# Altium integrated library SmartToy_MainBoard_REV02.IntLib: 24 symbols
Pins are listed as number, name and electrical type; pins without a type are passive.

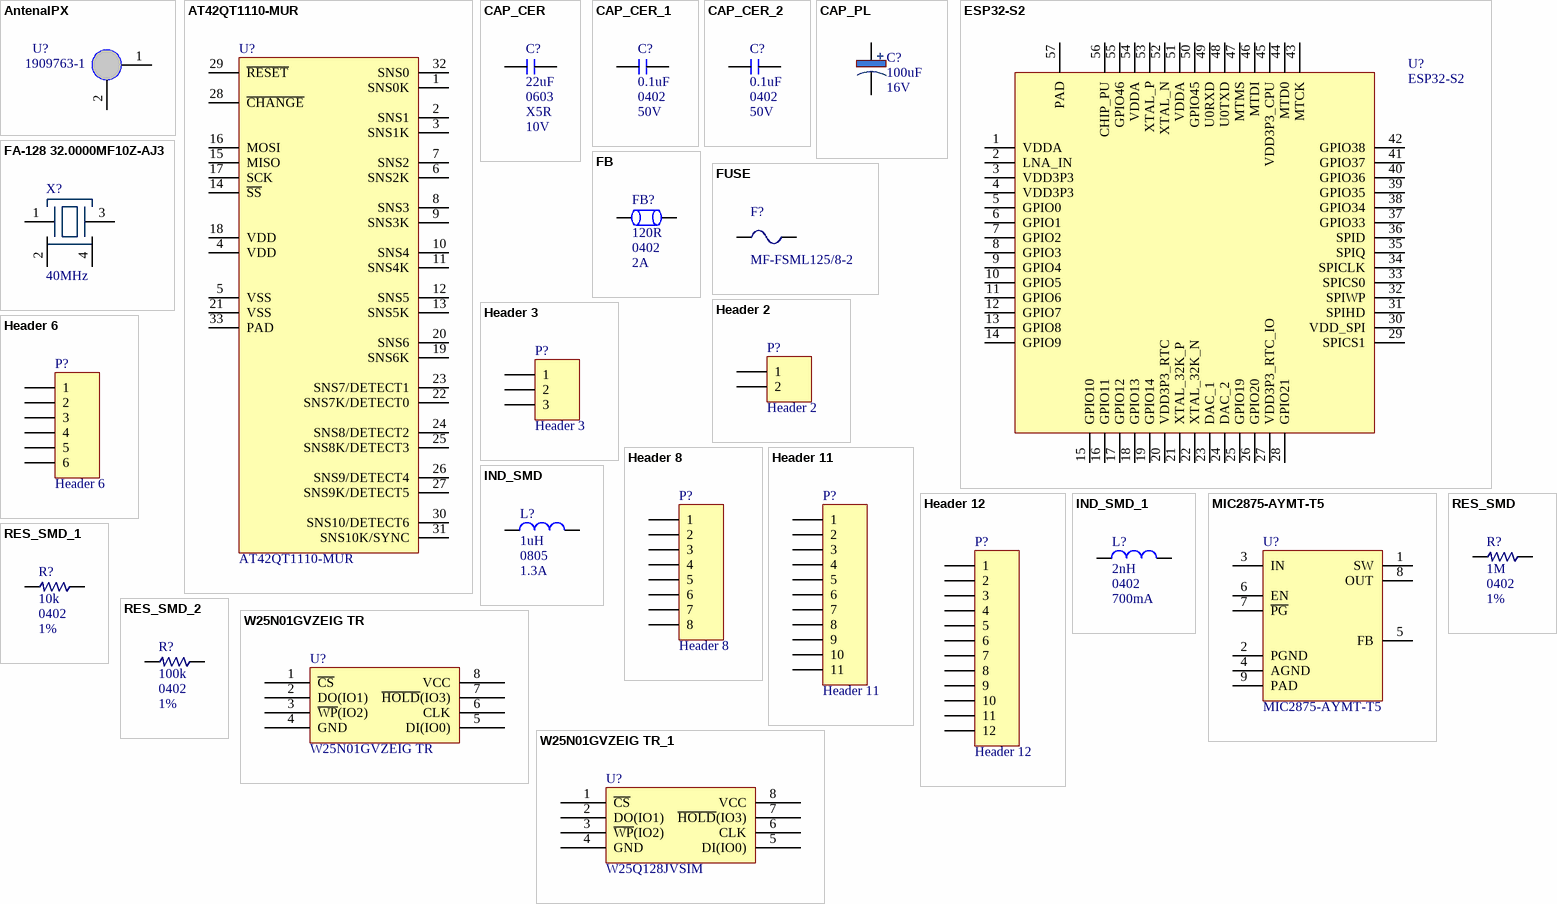
[diagram p0: symbols AntenaIPX to W25N01GVZEIG TR_1]

## AntenaIPX
designator U?, comment 1909763-1
CONN UMCC JACK STR 50OHM SMD; Manufacturer: TE Connectivity AMP; Body Material: Polymer,Liquid Crystal Polymer; Body Plating: Gold; Dielectric Material: Polymer; Impedance: 50R; Max Frequency: 6GHz; Gender: Female; Connector System: Cable-to-Board; Number of Positions: 1; Sealable: No (Without); Supplier 1: Digi-Key; Supplier Part Number 1: A118077CT-ND; Manufacturer Part Number: 1909763-1; Stock 1: 175154; Pricing 1: 1 = 0.46000, 10 = 0.42900, 25 = 0.38600, 50 = 0.34300, 100 = 0.32860, 250 = 0.30008, 500 = 0.28578, 1000 = 0.23577, 2500 = 0.21434 (USD); RoHS: Yes; Mount: Panel; Case/Package: SMD/SMT; Contact Plating: Gold; Contact Material: Copper Alloy; Housing Color: Beige; Insulation Material: Thermoplastic; Min Operating Temperature: -40°C; Max Operating Temperature: 194°C; Packaging: Tape and Reel; Package Quantity: 1; Fastening Type: Push,Pull; Termination: SMD/SMT; Connector Type: Jack; Orientation: Straight; Frequency: 6GHz; Length: 3mm; Radiation Hardening: No; ELV: Compliant; Lead Free: Lead Free; ComponentLink1URL: https://datasheet.ciiva.com/16312/eng-cd-1909763-b-16312469.pdf?src-supplier=Future+Electronics; ComponentLink1Description: https://datasheet.ciiva.com/16312/eng-cd-1909763-b-16312469.pdf?src-supplier=Future+Electronics; ComponentLink2URL: https://datasheet.ciiva.com/16469/eng-cd-1909763-b-16469221.pdf?src-supplier=Avnet+Asia; ComponentLink2Description: https://datasheet.ciiva.com/16469/eng-cd-1909763-b-16469221.pdf?src-supplier=Avnet+Asia; ComponentLink3URL: https://datasheet.ciiva.com/9423/eng-cd-1909763-b-9423785.pdf?src-supplier=Avnet; ComponentLink3Description: https://datasheet.ciiva.com/9423/eng-cd-1909763-b-9423785.pdf?src-supplier=Avnet; ComponentLink4URL: https://datasheet.ciiva.com/29191/eng-cd-1909763-b1-basefilename-29191146.pdf?src-supplier=Digi-Key; ComponentLink4Description: https://datasheet.ciiva.com/29191/eng-cd-1909763-b1-basefilename-29191146.pdf?src-supplier=Digi-Key; ComponentLink5URL: https://datasheet.ciiva.com/29191/eng-cd-1909763-b1-basefilename-29191148.pdf?src-supplier=Digi-Key; ComponentLink5Description: https://datasheet.ciiva.com/29191/eng-cd-1909763-b1-basefilename-29191148.pdf?src-supplier=Digi-Key
footprint IPEX_ANT
pins: 1 SIG, 2 GND

## AT42QT1110-MUR
designator U?
Capacitive Touch Screen 11 Key 32-Pin VQFN EP T/R; Manufacturer 1: Microchip; Supplier 1: Digi-Key; Manufacturer Part Number 1: AT42QT1110-MUR; RoHS: No; Stock 1: 4052; Pricing 1: 1=1.16000, 25=1.06000, 100=0.96200 (USD); ComponentLink1URL: http://www.microchip.com/mymicrochip/filehandler.aspx?ddocname=en590256&src-supplier=Digi-Key; ComponentLink1Description: http://www.microchip.com/mymicrochip/filehandler.aspx?ddocname=en590256&src-supplier=Digi-Key; Supplier Part Number 1: AT42QT1110-MURCT-ND
footprint QFN50P500X500X100_HS-33N (QFN, 32-Leads, Body 5.00x5.00mm, Pitch 0.50mm, Thermal Pad 3.50x3.50mm, IPC Medium Density)
pins: 1 SNS0K, 2 SNS1, 3 SNS1K, 4 VDD, 5 VSS, 6 SNS2K, 7 SNS2, 8 SNS3, 9 SNS3K, 10 SNS4, 11 SNS4K, 12 SNS5, 13 SNS5K, 14 ~{SS}, 15 MISO, 16 MOSI, 17 SCK, 18 VDD, 19 SNS6K, 20 SNS6, 21 VSS, 22 SNS7K/DETECT0, 23 SNS7/DETECT1, 24 SNS8/DETECT2, 25 SNS8K/DETECT3, 26 SNS9/DETECT4, 27 SNS9K/DETECT5, 28 ~{CHANGE}, 29 ~{RESET}, 30 SNS10/DETECT6, 31 SNS10K/SYNC, 32 SNS0, 33 PAD

## CAP_CER
designator C?, comment 22uF  Case Code (Imperial): 0603  Dielectric: X5R  Voltage Rating: 10V
CAP CER 22UF 10V X5R 0603; Manufacturer: Samsung; Manufacturer Part Number: CL10A226MP8NUNE; Tolerance: 20%; Supplier 1: Digi-Key; Supplier Part Number 1: 1276-1274-1-ND; Stock 1: 62306; Pricing 1: 1 = 0.20000, 10 = 0.14300, 50 = 0.08100, 100 = 0.06720, 500 = 0.04710, 1000 = 0.03900 (USD); RoHS: Yes; Mount: Surface Mount; Case/Package: 0603; Case Code (Metric): 1608; Contact Plating: Tin; Min Operating Temperature: -55°C; Max Operating Temperature: 85°C; Packaging: Tape and Reel; Capacitance: 22uF; Length: 1.6mm; Width: 0.031inch; Height: 0.8mm; Thickness: 0.035inch; Depth: 0.8mm; Radiation Hardening: No; Lead Free: Lead Free; ComponentLink1URL: https://datasheet.ciiva.com/26838/getdatasheetpartid-746477-26838370.pdf?src-supplier=Verical; ComponentLink1Description: https://datasheet.ciiva.com/26838/getdatasheetpartid-746477-26838370.pdf?src-supplier=Verical; ComponentLink2URL: https://datasheet.ciiva.com/25711/cl10a226mp8nune-25711532.pdf?src-supplier=Digi-Key; ComponentLink2Description: https://datasheet.ciiva.com/25711/cl10a226mp8nune-25711532.pdf?src-supplier=Digi-Key
footprint C0201M (Chip Capacitor 0201)
footprint C0402M (Capacitor 0402)
footprint C0603M (Chip Capacitor 0603)
footprint C0805M (Chip Capacitor 0805)
footprint C1206M (Chip Capacitor, 2-Leads, Body 3.20x1.60mm, IPC Medium Density)
footprint C1812M (Chip Capacitor, 2-Leads, Body 4.60x3.20mm, IPC Medium Density)
footprint C1210M (Chip Capacitor, 2-Leads, Body 3.20x2.50mm, IPC Medium Density)
footprint C5750M (Chip Capacitor, 2-Leads, Body 5.70x5.00mm, IPC Medium Density)
pins: 1, 2

## CAP_CER_1
designator C?, comment 0.1uF  Case Code (Imperial): 0402  Voltage: 50V
CAP CER 0.1UF 50V X7R 0402; Manufacturer: Murata; Manufacturer Part Number: GRM155R71H104KE14D; Material: Ceramic; Tolerance: 10%; Capacitance: 100nF; Dissipation Factor: 0.025%; ComponentLink1URL: https://datasheet.ciiva.com/25741/cl10b104kb8nnnl-25741341.pdf?src-supplier=Digi-Key; ComponentLink1Description: https://datasheet.ciiva.com/25741/cl10b104kb8nnnl-25741341.pdf?src-supplier=Digi-Key; ComponentLink2URL: https://datasheet.ciiva.com/26838/getdatasheetpartid-357523-26838415.pdf?src-supplier=Verical; ComponentLink2Description: https://datasheet.ciiva.com/26838/getdatasheetpartid-357523-26838415.pdf?src-supplier=Verical; Supplier 1: Digi-Key; Supplier Part Number 1: 490-10700-1-ND; Stock 1: 2282266; Pricing 1: 1 = 0.10000, 10 = 0.04600, 100 = 0.02050, 500 = 0.01464, 1000 = 0.01150, 2500 = 0.01045, 5000 = 0.00961 (USD); RoHS: Yes; Mount: Surface Mount; Case/Package: 0402; Weight: 0.000212oz; Case Code (Metric): 1005; Dielectric Material: Ceramic; Min Operating Temperature: -55°C; Max Operating Temperature: 125°C; Packaging: Tape and Reel; Dielectric: X7R; Voltage Rating: 50V; Termination: SMD/SMT; Composition: Ceramic; Voltage Rating (DC): 50V; Package Quantity: 10000; Length: 1mm; Height: 0.5mm; Width: 0.5mm; Thickness: 0.022inch; Depth: 0.5mm; REACH SVHC: No SVHC; Lead Free: Lead Free; ComponentLink3URL: http://www.farnell.com/datasheets/2079156.pdf?src-supplier=Farnell; ComponentLink3Description: http://www.farnell.com/datasheets/2079156.pdf?src-supplier=Farnell; ComponentLink4URL: http://www.mouser.com/ds/2/281/c02e-2905.pdf?src-supplier=Mouser; ComponentLink4Description: http://www.mouser.com/ds/2/281/c02e-2905.pdf?src-supplier=Mouser; ComponentLink5URL: http://components.arrow.com/part/dataview/0323_07030614?src-supplier=Arrow+Europe; ComponentLink5Description: http://components.arrow.com/part/dataview/0323_07030614?src-supplier=Arrow+Europe; ComponentLink6URL: https://search.murata.co.jp/Ceramy/image/img/A01X/G101/ENG/GRM155R71H104KE14-01.pdf?src-supplier=Digi-Key; ComponentLink6Description: https://search.murata.co.jp/Ceramy/image/img/A01X/G101/ENG/GRM155R71H104KE14-01.pdf?src-supplier=Digi-Key; ComponentLink7URL: http://psearch.en.murata.com/capacitor/product/GRM155R71H104KE14%23.pdf?src-supplier=Avnet; ComponentLink7Description: http://psearch.en.murata.com/capacitor/product/GRM155R71H104KE14%23.pdf?src-supplier=Avnet; ComponentLink8URL: http://www.farnell.com/datasheets/2079156.pdf?src-supplier=Element14; ComponentLink8Description: http://www.farnell.com/datasheets/2079156.pdf?src-supplier=Element14; ComponentLink9URL: http://www.farnell.com/datasheets/2079156.pdf?src-supplier=Newark; ComponentLink9Description: http://www.farnell.com/datasheets/2079156.pdf?src-supplier=Newark
footprint C0201M (Chip Capacitor 0201)
footprint C0402M (Capacitor 0402)
footprint C0603M (Chip Capacitor 0603)
footprint C0805M (Chip Capacitor 0805)
footprint C1206M (Chip Capacitor, 2-Leads, Body 3.20x1.60mm, IPC Medium Density)
footprint C1812M (Chip Capacitor, 2-Leads, Body 4.60x3.20mm, IPC Medium Density)
pins: 1, 2

## CAP_CER_2
designator C?, comment 0.1uF  Case/Package: 0402  Voltage: 50V
CAP CER 0.1UF 50V X7R 0402; Manufacturer: Murata; Manufacturer Part Number: GRM155R71H104KE14D; Material: Ceramic; Tolerance: 10%; Capacitance: 100nF; Dissipation Factor: 0.025%; ComponentLink1URL: https://datasheet.ciiva.com/25741/cl10b104kb8nnnl-25741341.pdf?src-supplier=Digi-Key; ComponentLink1Description: https://datasheet.ciiva.com/25741/cl10b104kb8nnnl-25741341.pdf?src-supplier=Digi-Key; ComponentLink2URL: https://datasheet.ciiva.com/26838/getdatasheetpartid-357523-26838415.pdf?src-supplier=Verical; ComponentLink2Description: https://datasheet.ciiva.com/26838/getdatasheetpartid-357523-26838415.pdf?src-supplier=Verical; Supplier 1: Digi-Key; Supplier Part Number 1: 490-10700-1-ND; Stock 1: 2282266; Pricing 1: 1 = 0.10000, 10 = 0.04600, 100 = 0.02050, 500 = 0.01464, 1000 = 0.01150, 2500 = 0.01045, 5000 = 0.00961 (USD); RoHS: Yes; Mount: Surface Mount; Weight: 0.000212oz; Case Code (Metric): 1005; Case Code (Imperial): 0402; Dielectric Material: Ceramic; Min Operating Temperature: -55°C; Max Operating Temperature: 125°C; Packaging: Tape and Reel; Dielectric: X7R; Voltage Rating: 50V; Termination: SMD/SMT; Composition: Ceramic; Voltage Rating (DC): 50V; Package Quantity: 10000; Length: 1mm; Height: 0.5mm; Width: 0.5mm; Thickness: 0.022inch; Depth: 0.5mm; REACH SVHC: No SVHC; Lead Free: Lead Free; ComponentLink3URL: http://www.farnell.com/datasheets/2079156.pdf?src-supplier=Farnell; ComponentLink3Description: http://www.farnell.com/datasheets/2079156.pdf?src-supplier=Farnell; ComponentLink4URL: http://www.mouser.com/ds/2/281/c02e-2905.pdf?src-supplier=Mouser; ComponentLink4Description: http://www.mouser.com/ds/2/281/c02e-2905.pdf?src-supplier=Mouser; ComponentLink5URL: http://components.arrow.com/part/dataview/0323_07030614?src-supplier=Arrow+Europe; ComponentLink5Description: http://components.arrow.com/part/dataview/0323_07030614?src-supplier=Arrow+Europe; ComponentLink6URL: https://search.murata.co.jp/Ceramy/image/img/A01X/G101/ENG/GRM155R71H104KE14-01.pdf?src-supplier=Digi-Key; ComponentLink6Description: https://search.murata.co.jp/Ceramy/image/img/A01X/G101/ENG/GRM155R71H104KE14-01.pdf?src-supplier=Digi-Key; ComponentLink7URL: http://psearch.en.murata.com/capacitor/product/GRM155R71H104KE14%23.pdf?src-supplier=Avnet; ComponentLink7Description: http://psearch.en.murata.com/capacitor/product/GRM155R71H104KE14%23.pdf?src-supplier=Avnet; ComponentLink8URL: http://www.farnell.com/datasheets/2079156.pdf?src-supplier=Element14; ComponentLink8Description: http://www.farnell.com/datasheets/2079156.pdf?src-supplier=Element14; ComponentLink9URL: http://www.farnell.com/datasheets/2079156.pdf?src-supplier=Newark; ComponentLink9Description: http://www.farnell.com/datasheets/2079156.pdf?src-supplier=Newark
footprint C0201M (Chip Capacitor 0201)
footprint C0402M (Capacitor 0402)
footprint C0603M (Chip Capacitor 0603)
footprint C0805M (Chip Capacitor 0805)
footprint C1206M (Chip Capacitor, 2-Leads, Body 3.20x1.60mm, IPC Medium Density)
footprint C1812M (Chip Capacitor, 2-Leads, Body 4.60x3.20mm, IPC Medium Density)
footprint C0402MA (Capacitor 0402)
pins: 1, 2

## CAP_PL
designator C?, comment 100uF  Voltage Rating: 16V
CAP ALUM 100UF 20% 16V RADIAL; Manufacturer 1: Nichicon; Manufacturer Part Number 1: UPS1C101MED; Ripple Current: 250mA; Impedance: 500mR; Life (Hours): 2000Hour; Leakage Current: 4uA; Lead Diameter: 0.5mm; Supplier 1: Digi-Key; Supplier Part Number 1: 493-15821-ND; RoHS: Yes; Category: Aluminum Electrolytic Capacitors; Stock 1: 11875; Pricing 1: 1=0.40000, 10=0.27300, 50=0.18220, 100=0.15480, 500=0.10930, 1000=0.09563, 2500=0.09108, 5000=0.08425 (USD); Mount: Through Hole; Case/Package: Radial; Min Operating Temperature: -55°C; Max Operating Temperature: 105°C; Tolerance: 20%; Capacitance: 100uF; Packaging: Bulk; Termination: Radial; Package Quantity: 200; Series: PS; Voltage: 16V; Construction: RADIAL; Diameter: 6.3mm; Height: 11mm; Lead Pitch: 2.5mm; Height - Seated (Max): 0.492inch; Radiation Hardening: No; RoHS Compliant: Yes; ComponentLink1URL: https://datasheet.ciiva.com/30527/getdatasheetpartid-388103-30527200.pdf?src-supplier=Verical; ComponentLink1Description: https://datasheet.ciiva.com/30527/getdatasheetpartid-388103-30527200.pdf?src-supplier=Verical; ComponentLink2URL: https://datasheet.ciiva.com/11777/0900766b8064973a-11777900.pdf?src-supplier=RSComponents; ComponentLink2Description: https://datasheet.ciiva.com/11777/0900766b8064973a-11777900.pdf?src-supplier=RSComponents; ComponentLink3URL: https://datasheet.ciiva.com/17525/e-ps-17525750.pdf?src-supplier=Avnet+Europe; ComponentLink3Description: https://datasheet.ciiva.com/17525/e-ps-17525750.pdf?src-supplier=Avnet+Europe; ComponentLink4URL: https://datasheet.ciiva.com/109/e-ps-109463.pdf?src-supplier=Digi-Key; ComponentLink4Description: https://datasheet.ciiva.com/109/e-ps-109463.pdf?src-supplier=Digi-Key; ComponentLink5URL: https://datasheet.ciiva.com/11686/e-ps-11686127.pdf?src-supplier=Avnet; ComponentLink5Description: https://datasheet.ciiva.com/11686/e-ps-11686127.pdf?src-supplier=Avnet
footprint CP_18X33.5_P7.5MM (ExPart: UCS2W680MHD)
footprint CP_5X10_P5.0MM (Expart: UHE1V221MPD6)
footprint CP_12.5X27_P5.0MM (Expart: UPJ1E102MHD1TO)
footprint CP_6.3X12.5_P2.5MM (Expart: UPJ1C680MED1TD)
footprint CP_8X13_P3.5MM (Footprint not found)
footprint CP_10X16_P5.0MM (Expart: UHD1E471MPD6)
footprint CP_TANT_7343 (Molded Capacitor, 2-Leads, Body 7.30x4.30mm, IPC Medium Density)
footprint CP_TANT_3528 (Molded Capacitor, 2-Leads, Body 3.50x2.80mm, IPC Medium Density)
footprint CP_5X12.5_P2.5MM (Expart: UPS1H010MDD1TD)
pins: 1, 2

## ESP32-S2
designator U?
RF System on a Chip - SoC SMD Wi-Fi IC, ESP32-S2, singal-core MCU, QFN 56-pin, 7*7 mm; Manufacturer 1: Espressif Systems; Manufacturer Part Number 1: ESP32-S2
footprint QFN40P700X700X90_HS-57N (QFN, 56-Leads, Body 7.00x7.00mm, Pitch 0.40mm, Thermal Pad 4.00x4.00mm, IPC Medium Density)
pins: 1 VDDA, 2 LNA_IN, 3 VDD3P3, 4 VDD3P3, 5 GPIO0, 6 GPIO1, 7 GPIO2, 8 GPIO3, 9 GPIO4, 10 GPIO5, 11 GPIO6, 12 GPIO7, 13 GPIO8, 14 GPIO9, 15 GPIO10, 16 GPIO11, 17 GPIO12, 18 GPIO13, 19 GPIO14, 20 VDD3P3_RTC, 21 XTAL_32K_P, 22 XTAL_32K_N, 23 DAC_1, 24 DAC_2, 25 GPIO19, 26 GPIO20, 27 VDD3P3_RTC_IO, 28 GPIO21, 29 SPICS1, 30 VDD_SPI, 31 SPIHD, 32 SPIWP, 33 SPICS0, 34 SPICLK, 35 SPIQ, 36 SPID, 37 GPIO33, 38 GPIO34, 39 GPIO35, 40 GPIO36, 41 GPIO37, 42 GPIO38, 43 MTCK, 44 MTD0, 45 VDD3P3_CPU, 46 MTDI, 47 MTMS, 48 U0TXD, 49 U0RXD, 50 GPIO45, 51 VDDA, 52 XTAL_N, 53 XTAL_P, 54 VDDA, 55 GPIO46, 56 CHIP_PU, 57 PAD

## FA-128 32.0000MF10Z-AJ3
designator X?, comment 40MHz
CRYSTAL 40.0000MHZ 8PF SMD; Manufacturer 1: Abracon; Manufacturer Part Number 1: ABM11W-40.0000MHZ-8-B1U-T3; Drain to Source Voltage (Vdss): 60V; Continuous Drain Current (ID): 22A; Rds On Max: 4mR; Input Capacitance: 2.2nF; Max Power Dissipation: 79W; Frequency Stability: 10ppm; ESR (Equivalent Series Resistance): 60R; Supplier 1: Digi-Key; Supplier Part Number 1: 535-13918-1-ND; RoHS: Yes; Stock 1: 770; Pricing 1: 1=0.78000, 10=0.69000, 50=0.64500, 100=0.57000, 500=0.54000 (USD); Mount: Surface Mount; Case/Package: DFN; Min Operating Temperature: -55°C; Max Operating Temperature: 175°C; Packaging: Cut Tape; Frequency: 40MHz; Frequency Tolerance: 10ppm; Load Capacitance: 8pF; ComponentLink1URL: https://abracon.com/Resonators/ABM11W.pdf?src-supplier=Digi-Key; ComponentLink1Description: https://abracon.com/Resonators/ABM11W.pdf?src-supplier=Digi-Key
footprint FA-128
pins: 1, 2, 3, 4

## FB
designator FB?, comment 120R  Case/Package: 0402  Current Rating: 2A
FERRITE BEAD 120 OHM 0402 1LN; Manufacturer: Murata; Manufacturer Part Number: BLM15PX121SN1D; Material: Steel; Tolerance: 25%; Number of Lines: 1; DC Resistance (DCR): 55mR; Test Frequency: 100MHz; Supplier 1: Digi-Key; Supplier Part Number 1: 490-9656-1-ND; RoHS: Yes; Category: Inductors; Stock 1: 73734; Pricing 1: 1=0.12000, 10=0.09500, 25=0.07400, 50=0.06140, 100=0.05280, 250=0.04228, 500=0.03806, 1000=0.03171, 5000=0.02960 (USD); Number of Pins: 2; Case Code (Metric): 1005; Case Code (Imperial): 0402; Weight: 2.3E-05oz; Min Operating Temperature: -55°C; Max Operating Temperature: 125°C; Package Quantity: 10000; Impedance: 120R; Packaging: Tape and Reel; Max Current Rating: 2A; Termination: SMD/SMT; Max DC Current: 2A; Number of Circuits: 1; Series: EMIFIL®, BLM15P; Length: 1mm; Width: 0.5mm; Height: 0.5mm; REACH SVHC: No SVHC; Lead Free: Lead Free; RoHS Compliant: Yes; ComponentLink1URL: https://datasheet.ciiva.com/41449/001172210-da-01-en-drossel-0402-120r-1-0x0-5mm-10000st-41449498.pdf?src-supplier=Conrad; ComponentLink1Description: https://datasheet.ciiva.com/41449/001172210-da-01-en-drossel-0402-120r-1-0x0-5mm-10000st-41449498.pdf?src-supplier=Conrad; ComponentLink2URL: https://datasheet.ciiva.com/29364/l0110e-29364069.pdf?src-supplier=Digi-Key; ComponentLink2Description: https://datasheet.ciiva.com/29364/l0110e-29364069.pdf?src-supplier=Digi-Key; ComponentLink3URL: https://datasheet.ciiva.com/41860/l0110e-41860699.pdf?src-supplier=Digi-Key; ComponentLink3Description: https://datasheet.ciiva.com/41860/l0110e-41860699.pdf?src-supplier=Digi-Key
footprint R0603M (Chip Resistor 0603)
footprint R0805M (Chip Resistor 0805)
footprint R0402M (Chip Resistor 0402)
pins: 1, 2

## FUSE
designator F?, comment MF-FSML125/8-2
PTC RESET FUSE 8V 1.25A 0603; Manufacturer 1: Bourns; Associated Product: 01000056Z; Supplier 1: Digi-Key; Supplier Part Number 1: MF-FSML125/8-2TR-ND; Manufacturer Part Number 1: MF-FSML125/8-2; RoHS: No; Stock 1: 6000; Pricing 1: 6000=0.53200 (USD)
footprint R0603M (Chip Resistor 0603)
pins: 1, 2

## Header 2
designator P?  (no BOM)
Header, 2-Pin; LatestRevisionDate: 17-Jul-2002; LatestRevisionNote: Re-released for DXP Platform.; Publisher: Altium Limited
footprint HDR1X2 (Connector; Header; 2 Position)
signal-integrity model Connector
pins: 1, 2

## Header 3
designator P?  (no BOM)
Header, 3-Pin; LatestRevisionDate: 17-Jul-2002; LatestRevisionNote: Re-released for DXP Platform.; Publisher: Altium Limited
footprint HDR1X3 (Connector; Header; 3 Position)
signal-integrity model Connector
pins: 1, 2, 3

## Header 6
designator P?  (no BOM)
Header, 6-Pin; LatestRevisionDate: 17-Jul-2002; LatestRevisionNote: Re-released for DXP Platform.; Publisher: Altium Limited
footprint HDR1X6 (Connector; Header; 6 Position)
signal-integrity model Connector
pins: 1, 2, 3, 4, 5, 6

## Header 8
designator P?  (no BOM)
Header, 8-Pin; LatestRevisionDate: 17-Jul-2002; LatestRevisionNote: Re-released for DXP Platform.; Publisher: Altium Limited
footprint HDR1X8 (Connector; Header; 8 Position)
signal-integrity model Connector
pins: 1, 2, 3, 4, 5, 6, 7, 8

## Header 11
designator P?  (no BOM)
Header, 11-Pin; LatestRevisionDate: 17-Jul-2002; LatestRevisionNote: Re-released for DXP Platform.; Publisher: Altium Limited
footprint TOUCH_CONTACT_MAINBOARD
signal-integrity model Connector
pins: 1, 2, 3, 4, 5, 6, 7, 8, 9, 10, 11

## Header 12
designator P?  (no BOM)
Header, 12-Pin; LatestRevisionDate: 17-Jul-2002; LatestRevisionNote: Re-released for DXP Platform.; Publisher: Altium Limited
footprint HDR1X12 (Connector; Header; 12 Position)
signal-integrity model Connector
pins: 1, 2, 3, 4, 5, 6, 7, 8, 9, 10, 11, 12

## IND_SMD
designator L?, comment 1uH  Case Code (Imperial): 0805  Current Rating: 1.3A
FIXED IND 1UH 1.3A 82.5 MOHM SMD; Manufacturer 1: Murata; Manufacturer Part Number 1: LQM21PN1R0NGRD; Core Material: Ferrite; Tolerance: 30%; Shielding: Shielded; Self Resonant Frequency: 50MHz; DC Resistance (DCR): 82.5mR; Test Frequency: 1MHz; Supplier 1: Digi-Key; Supplier Part Number 1: 490-7780-1-ND; RoHS: Yes; Category: Fixed Inductors; Stock 1: 20158; Pricing 1: 1=0.24000, 10=0.21400, 25=0.18760, 50=0.16060, 100=0.14730, 250=0.13388, 500=0.12584, 1000=0.09639 (USD); Mount: Surface Mount; Case/Package: 0805; Case Code (Metric): 2012; Weight: 0.000194oz; Min Operating Temperature: -55°C; Max Operating Temperature: 125°C; Packaging: Tape and Reel; Package Quantity: 4000; Inductance: 1uH; Max DC Current: 1.3A; Termination: SMD/SMT; DC Current: 1.3A; Inductance Tolerance: 30%; Series: LQM21PN_GR; Length: 2mm; Width: 0.049inch; Height: 0.9mm; Height - Seated (Max): 0.039inch; Depth: 1.4mm; Military Standard: Not; REACH SVHC: No SVHC; RoHS Compliant: Yes; ComponentLink1URL: https://datasheet.ciiva.com/4965/l0075s0104lqm21p-gr-125292-4965537.pdf?src-supplier=Mouser; ComponentLink1Description: https://datasheet.ciiva.com/4965/l0075s0104lqm21p-gr-125292-4965537.pdf?src-supplier=Mouser; ComponentLink2URL: https://datasheet.ciiva.com/30490/0900766b812561d6-30490175.pdf?src-supplier=RSComponents; ComponentLink2Description: https://datasheet.ciiva.com/30490/0900766b812561d6-30490175.pdf?src-supplier=RSComponents
footprint IND_0805 (Chip Inductor, 2-Leads, Body 2.00x1.25mm, IPC Medium Density)
footprint IND_0402 (Chip Inductor, 2-Leads, Body 1.00x0.50mm, IPC Medium Density)
footprint IND_0603 (Chip Inductor, 2-Leads, Body 1.60x0.80mm, IPC Medium Density)
footprint IND_0805 (Chip Inductor, 2-Leads, Body 2.00x1.25mm, IPC Medium Density)
footprint IND_1210
footprint IND_2520
footprint IND_6045
footprint IND_5040
pins: 1, 2

## IND_SMD_1
designator L?, comment 2nH  Case Code (Imperial): 0402  Current Rating: 700mA
FIXED IND 2NH 700MA 120 MOHM SMD; Manufacturer 1: Taiyo Yuden; Manufacturer Part Number 1: HK10052N0S-T; Core Material: Ferrite,Ceramic; Self Resonant Frequency: 6GHz; Shielding: Unshielded; DC Resistance (DCR): 120mR; Q Factor: 8; Test Frequency: 100MHz; Max DC Current: 300mA; Supplier 1: Digi-Key; Supplier Part Number 1: 587-1502-1-ND; RoHS: Yes; Category: Fixed Inductors; Stock 1: 13842; Pricing 1: 1=0.10000, 10=0.02600, 25=0.02360, 50=0.02100, 100=0.01780, 250=0.01576, 500=0.01444, 1000=0.01234, 2500=0.01102 (USD); Mount: Surface Mount; Case/Package: 0402; Number of Pins: 2; Case Code (Metric): 1005; Weight: 2.3E-05oz; Min Operating Temperature: -55°C; Max Operating Temperature: 125°C; Packaging: Tape and Reel; Inductance: 2nH; Package Quantity: 10000; Termination: SMD/SMT; Series: HK; Length: 0.039inch; Width: 0.5mm; Height: 0.5mm; Height - Seated (Max): 0.022inch; Depth: 0.55mm; Radiation Hardening: No; Lead Free: Exempt; Halogen Free: Halogen Free; REACH SVHC: No SVHC; RoHS Compliant: Yes; ComponentLink1URL: https://datasheet.ciiva.com/7153/hk10052n0s-t-ss-7153840.pdf?src-supplier=Newark; ComponentLink1Description: https://datasheet.ciiva.com/7153/hk10052n0s-t-ss-7153840.pdf?src-supplier=Newark; ComponentLink2URL: https://datasheet.ciiva.com/15986/1438hk10052n0s-t-15986357.pdf?src-supplier=Onlinecomponents.com; ComponentLink2Description: https://datasheet.ciiva.com/15986/1438hk10052n0s-t-15986357.pdf?src-supplier=Onlinecomponents.com; ComponentLink3URL: https://datasheet.ciiva.com/30105/675hk10052n0s-t-30105478.pdf?src-supplier=Onlinecomponents.com; ComponentLink3Description: https://datasheet.ciiva.com/30105/675hk10052n0s-t-30105478.pdf?src-supplier=Onlinecomponents.com; ComponentLink4URL: https://datasheet.ciiva.com/8505/hk10052n0s-t-ss-8505550.pdf?src-supplier=Avnet; ComponentLink4Description: https://datasheet.ciiva.com/8505/hk10052n0s-t-ss-8505550.pdf?src-supplier=Avnet
footprint IND_0201 (Chip Inductor, 2-Leads, Body 0.60x0.30mm, IPC Medium Density)
footprint IND_0402 (Chip Inductor, 2-Leads, Body 1.00x0.50mm, IPC Medium Density)
footprint IND_0603 (Chip Inductor, 2-Leads, Body 1.60x0.80mm, IPC Medium Density)
footprint IND_0805 (Chip Inductor, 2-Leads, Body 2.00x1.25mm, IPC Medium Density)
footprint IND_1210
footprint IND_2520
footprint IND_6045
footprint IND_5040
pins: 1, 2

## MIC2875-AYMT-T5
designator U?
IC REG BOOST ADJ 3.8A 8TDFN; Manufacturer 1: Microchip; Supplier 1: Digi-Key; Manufacturer Part Number 1: MIC2875-AYMT-T5; RoHS: No; Category: Voltage Regulators - Switching; Stock 1: 322; Pricing 1: 1=1.27000, 25=1.05000, 100=0.96000 (USD); ComponentLink1URL: http://www.microchip.com/mymicrochip/filehandler.aspx?ddocname=en580778&src-supplier=Digi-Key; ComponentLink1Description: http://www.microchip.com/mymicrochip/filehandler.aspx?ddocname=en580778&src-supplier=Digi-Key; Supplier Part Number 1: 576-4863-1-ND
footprint SON50P200X60_HS-9N (SON, 8-Leads, Body 2.00x2.00mm, Pitch 0.50mm, Thermal Pad 1.20x0.60mm, IPC Medium Density)
pins: 1 SW, 2 PGND, 3 IN, 4 AGND, 5 FB, 6 EN, 7 ~{PG}, 8 OUT, 9 PAD

## RES_SMD
designator R?, comment 1M  Size Code: 0402  Tolerance: 1%
RES SMD 1M OHM 1% 1/16W 0402; Manufacturer 1: Yageo; Manufacturer Part Number 1: RC0402FR-071ML; Mouting Technology: SMT; Resistance: 1MR; Power Rating: 63mW; Voltage Rating: 50V; Temperature Coefficient: 100ppm/°C; Pin: 2; Supplier 1: Digi-Key; Supplier Part Number 1: 311-1.00MLRCT-ND; RoHS: Yes; Category: Chip SMD Resistors; Stock 1: 4089105; Pricing 1: 1=0.10000, 10=0.01600, 100=0.00660, 1000=0.00299, 2500=0.00259, 5000=0.00214 (USD); Case/Package: 0402; Case Code (Imperial): 0402; Case Code (Metric): 1005; Min Operating Temperature: -55°C; Max Operating Temperature: 155°C; Resistor Type: Thick Film; Packaging: Tape and Reel; Termination: SMD/SMT; Features: Moisture Resistant; Series: RC; Max Power Dissipation: 63mW; Number of Terminations: 2; Resistance Tolerance: 1%; Construction: Rectangular; Technology: THICK FILM; Length: 1mm; Height: 0.32mm; Depth: 0.5mm; RoHS Compliant: Yes; REACH SVHC: Unknown; Military Standard: Not; Lead Free: Lead Free; ComponentLink1URL: https://datasheet.ciiva.com/11808/0900766b80c66297-11808125.pdf?src-supplier=RSComponents; ComponentLink1Description: https://datasheet.ciiva.com/11808/0900766b80c66297-11808125.pdf?src-supplier=RSComponents; ComponentLink2URL: https://datasheet.ciiva.com/46394/1018594-46394951.pdf?src-supplier=Element14; ComponentLink2Description: https://datasheet.ciiva.com/46394/1018594-46394951.pdf?src-supplier=Element14; ComponentLink3URL: https://datasheet.ciiva.com/16741/pyu-rc0402-51-rohs-l-6-r-16741081.pdf?src-supplier=Future+Electronics; ComponentLink3Description: https://datasheet.ciiva.com/16741/pyu-rc0402-51-rohs-l-6-r-16741081.pdf?src-supplier=Future+Electronics; ComponentLink4URL: https://datasheet.ciiva.com/7849/1018594-7849882.pdf?src-supplier=Element14; ComponentLink4Description: https://datasheet.ciiva.com/7849/1018594-7849882.pdf?src-supplier=Element14; ComponentLink5URL: https://datasheet.ciiva.com/7849/1018594-7849883.pdf?src-supplier=Element14; ComponentLink5Description: https://datasheet.ciiva.com/7849/1018594-7849883.pdf?src-supplier=Element14
footprint R0201M (Chip Resistor 0201)
footprint R0402M (Chip Resistor 0402)
footprint R0603M (Chip Resistor 0603)
footprint R0805M (Chip Resistor 0805)
footprint R1206M (Chip Resistor, 2-Leads, Body 3.20x1.60mm, IPC Medium Density)
footprint R2512M (Chip Resistor, 2-Leads, Body 6.30x3.15mm, IPC Medium Density)
footprint R1210M
pins: 1, 2

## RES_SMD_1
designator R?, comment 10k  Case Code (Imperial): 0402  Tolerance: 1%
RES SMD 10K OHM 1% 1/16W 0402; Manufacturer: Yageo; Manufacturer Part Number: RC0402FR-0710KL; Resistance: 10kR; Temperature Coefficient: 100ppm/°C; Voltage Rating (DC): 50V; Power Rating: 62.5mW; Supplier 1: Digi-Key; Supplier Part Number 1: 311-10.0KLRTR-ND; Stock 1: 58760000; Pricing 1: 10000 = 0.001630, 30000 = 0.001440, 50000 = 0.001320, 100000 = 0.001290 (USD); RoHS: Yes; Case/Package: 0402; Number of Pins: 2; Case Code (Metric): 1005; Min Operating Temperature: -55°C; Max Operating Temperature: 155°C; Composition: Thick Film; Packaging: Tape and Reel; Voltage Rating: 50V; Termination: SMD/SMT; Military Standard: Not; Working Voltage: 50V; Number of Terminations: 2; Length: 1mm; Height: 0.32mm; Width: 0.5mm; Depth: 0.5mm; Lead Pitch: 0.2mm; REACH SVHC: No SVHC; Lead Free: Lead Free; ComponentLink1URL: https://datasheet.ciiva.com/7660/38568-7660787.pdf?src-supplier=Element14; ComponentLink1Description: https://datasheet.ciiva.com/7660/38568-7660787.pdf?src-supplier=Element14; ComponentLink2URL: https://datasheet.ciiva.com/7849/1784430-7849813.pdf?src-supplier=Element14; ComponentLink2Description: https://datasheet.ciiva.com/7849/1784430-7849813.pdf?src-supplier=Element14; ComponentLink3URL: https://datasheet.ciiva.com/7849/1686128-7849814.pdf?src-supplier=Element14; ComponentLink3Description: https://datasheet.ciiva.com/7849/1686128-7849814.pdf?src-supplier=Element14; ComponentLink4URL: https://datasheet.ciiva.com/7849/1784430-7849815.pdf?src-supplier=Element14; ComponentLink4Description: https://datasheet.ciiva.com/7849/1784430-7849815.pdf?src-supplier=Element14; ComponentLink5URL: https://datasheet.ciiva.com/22747/1018594-22747512.pdf?src-supplier=Element14; ComponentLink5Description: https://datasheet.ciiva.com/22747/1018594-22747512.pdf?src-supplier=Element14; ComponentLink6URL: https://datasheet.ciiva.com/12667/pyu-rc0402-51-rohs-l-6-r-12667067.pdf?src-supplier=Mouser; ComponentLink6Description: https://datasheet.ciiva.com/12667/pyu-rc0402-51-rohs-l-6-r-12667067.pdf?src-supplier=Mouser; ComponentLink7URL: https://datasheet.ciiva.com/7983/1018594-7983486.pdf?src-supplier=Element14; ComponentLink7Description: https://datasheet.ciiva.com/7983/1018594-7983486.pdf?src-supplier=Element14
footprint R0201M (Chip Resistor 0201)
footprint R0402M (Chip Resistor 0402)
footprint R0603M (Chip Resistor 0603)
footprint R0805M (Chip Resistor 0805)
footprint R1206M (Chip Resistor, 2-Leads, Body 3.20x1.60mm, IPC Medium Density)
footprint R2512M (Chip Resistor, 2-Leads, Body 6.30x3.15mm, IPC Medium Density)
pins: 1, 2

## RES_SMD_2
designator R?, comment 100k  Case Code (Imperial): 0402  Tolerance: 1%
RES SMD 100K OHM 1% 1/16W 0402; Manufacturer: Yageo; Manufacturer Part Number: RC0402FR-07100KL; Resistance: 100kR; Power Rating: 63mW; Voltage Rating: 50V; Temperature Coefficient: 100ppm/°C; ComponentLink1URL: https://datasheet.ciiva.com/11808/0900766b80f96399-11808107.pdf?src-supplier=RSComponents; ComponentLink1Description: https://datasheet.ciiva.com/11808/0900766b80f96399-11808107.pdf?src-supplier=RSComponents; ComponentLink2URL: https://datasheet.ciiva.com/7983/443971-7983593.pdf?src-supplier=Element14; ComponentLink2Description: https://datasheet.ciiva.com/7983/443971-7983593.pdf?src-supplier=Element14; ComponentLink3URL: https://datasheet.ciiva.com/46440/1868787-46440889.pdf?src-supplier=Element14; ComponentLink3Description: https://datasheet.ciiva.com/46440/1868787-46440889.pdf?src-supplier=Element14; ComponentLink4URL: https://datasheet.ciiva.com/7746/1738695-7746234.pdf?src-supplier=Element14; ComponentLink4Description: https://datasheet.ciiva.com/7746/1738695-7746234.pdf?src-supplier=Element14; ComponentLink5URL: https://datasheet.ciiva.com/7746/1738695-7746235.pdf?src-supplier=Element14; ComponentLink5Description: https://datasheet.ciiva.com/7746/1738695-7746235.pdf?src-supplier=Element14; ComponentLink6URL: https://datasheet.ciiva.com/22747/443971-22747516.pdf?src-supplier=Element14; ComponentLink6Description: https://datasheet.ciiva.com/22747/443971-22747516.pdf?src-supplier=Element14; Supplier 1: Digi-Key; Supplier Part Number 1: 311-100KJRCT-ND; Stock 1: 3850330; Pricing 1: 1 = 0.10000, 10 = 0.01200, 100 = 0.00480, 1000 = 0.00215, 2500 = 0.00186, 5000 = 0.00154 (USD); RoHS: Yes; Case/Package: 0402; Case Code (Metric): 1005; Min Operating Temperature: -55°C; Max Operating Temperature: 155°C; Packaging: Tape and Reel; Package Quantity: 1; Resistor Type: Thick Film; Number of Terminations: 2; Termination: SMD/SMT; Max Power Dissipation: 63mW; Features: Moisture Resistant; Length: 1mm; Width: 0.02inch; Height: 0.016inch; Depth: 0.5mm; REACH SVHC: Unknown; Military Standard: Not; Lead Free: Lead Free; ComponentLink7URL: https://datasheet.ciiva.com/7850/1018594-7850133.pdf?src-supplier=Element14; ComponentLink7Description: https://datasheet.ciiva.com/7850/1018594-7850133.pdf?src-supplier=Element14; ComponentLink8URL: https://datasheet.ciiva.com/2491/pyu-r-int-thick-7-2491207.pdf?src-supplier=Digi-Key; ComponentLink8Description: https://datasheet.ciiva.com/2491/pyu-r-int-thick-7-2491207.pdf?src-supplier=Digi-Key; ComponentLink9URL: https://datasheet.ciiva.com/2491/pyu-r-int-thick-7-2491208.pdf?src-supplier=Digi-Key; ComponentLink9Description: https://datasheet.ciiva.com/2491/pyu-r-int-thick-7-2491208.pdf?src-supplier=Digi-Key; ComponentLink10URL: https://datasheet.ciiva.com/2491/pyu-r-int-thick-7-2491209.pdf?src-supplier=Digi-Key; ComponentLink10Description: https://datasheet.ciiva.com/2491/pyu-r-int-thick-7-2491209.pdf?src-supplier=Digi-Key; ComponentLink11URL: https://datasheet.ciiva.com/17052/pyu-rc0402-51-rohs-l-6-r-17052137.pdf?src-supplier=Future+Electronics; ComponentLink11Description: https://datasheet.ciiva.com/17052/pyu-rc0402-51-rohs-l-6-r-17052137.pdf?src-supplier=Future+Electronics; ComponentLink12URL: https://datasheet.ciiva.com/12668/pyu-rc0402-51-rohs-l-6-r-12668218.pdf?src-supplier=Mouser; ComponentLink12Description: https://datasheet.ciiva.com/12668/pyu-rc0402-51-rohs-l-6-r-12668218.pdf?src-supplier=Mouser; ComponentLink13URL: https://datasheet.ciiva.com/46394/1018594-46394941.pdf?src-supplier=Element14; ComponentLink13Description: https://datasheet.ciiva.com/46394/1018594-46394941.pdf?src-supplier=Element14
footprint R0603M (Chip Resistor 0603)
footprint R0805
footprint R0402 (1/16W)
footprint RES0402
footprint R0402M
pins: 1, 2

## W25N01GVZEIG TR
designator U?
IC FLASH 1G SPI 104MHZ 8WSON; Manufacturer 1: Winbond; Memory Type: FLASH,NAND; Interface: SPI,Serial; Supplier 1: Digi-Key; Manufacturer Part Number 1: W25N01GVZEIG TR; RoHS: Yes; Category: Memory; Stock 1: 33713; Pricing 1: 1=3.21000, 10=2.88200, 25=2.83760, 50=2.83000, 100=2.52870, 250=2.44564, 500=2.43672, 1000=2.26904 (USD); Min Operating Temperature: -40°C; Max Operating Temperature: 85°C; Packaging: Tape and Reel; Frequency: 104MHz; RoHS Compliant: Yes; ComponentLink1URL: http://www.winbond.com/resource-files/w25n01gv%20revl%20050918%20unsecured.pdf?src-supplier=Digi-Key; ComponentLink1Description: http://www.winbond.com/resource-files/w25n01gv%20revl%20050918%20unsecured.pdf?src-supplier=Digi-Key; Supplier Part Number 1: W25N01GVZEIGCT-ND
footprint SON127P800X80_HS-9N (SON, 8-Leads, Body 6.00x8.00mm, Pitch 1.27mm, Thermal Pad 4.30x3.40mm, IPC Medium Density)
pins: 1 ~{CS}, 2 DO(IO1), 3 ~{WP}(IO2), 4 GND, 5 DI(IO0), 6 CLK, 7 ~{HOLD}(IO3), 8 VCC

## W25N01GVZEIG TR_1
designator U?, comment W25Q128JVSIM
IC FLASH 128MBIT SPI/QUAD 8SOIC; Manufacturer 1: Winbond; Memory Type: Non-Volatile,FLASH; Memory Size: 128Mb; Frequency: 133MHz; ComponentLink1URL: http://www.winbond.com/resource-files/w25n01gv%20revl%20050918%20unsecured.pdf?src-supplier=Digi-Key; ComponentLink1Description: http://www.winbond.com/resource-files/w25n01gv%20revl%20050918%20unsecured.pdf?src-supplier=Digi-Key; Supplier 1: Digi-Key; Supplier Part Number 1: W25Q128JVSIM-ND; Manufacturer Part Number 1: W25Q128JVSIM; RoHS: Yes; Category: Memory; Stock 1: 4617; Pricing 1: 1=1.62000, 10=1.48100, 25=1.44080, 50=1.43360, 100=1.28140, 250=1.27772, 500=1.25844, 1000=1.20501, 5000=1.12190 (USD); Mount: Surface Mount; Case/Package: SOIC; Min Operating Temperature: -40°C; Max Operating Temperature: 85°C; Packaging: Rail/Tube; RoHS Compliant: Yes; ComponentLink2URL: http://www.winbond.com/resource-files/w25q128jv_dtr%20revc%2003272018%20plus.pdf?src-supplier=Digi-Key; ComponentLink2Description: http://www.winbond.com/resource-files/w25q128jv_dtr%20revc%2003272018%20plus.pdf?src-supplier=Digi-Key
footprint SOIC127P790X216-8N (SOIC, 8-Leads, Body 5.30x5.30mm, Pitch 1.27mm, IPC Medium Density)
pins: 1 ~{CS}, 2 DO(IO1), 3 ~{WP}(IO2), 4 GND, 5 DI(IO0), 6 CLK, 7 ~{HOLD}(IO3), 8 VCC